# Altium schematic symbol library 227161-1.SchLib: 1 symbol
Pins are listed as number, name and electrical type; pins without a type are passive.

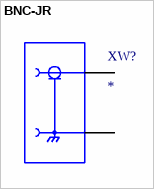
[diagram p0: symbol BNC-JR]

## BNC-JR
designator XW?
Разъём высокочастотный RUICHI BNC-JR, гнездо на плату; MP: 227161-1; Package: None; Price: None; Value: *; Availability: Unavailable; Supplier 1: DigiKey; Supplier Part Number 1: 900-0731713061-ND
footprint TE_227161-1
pins: 1 SIG, 2 GND (power)